# EAGLE library part AR1100-ISO (library SchlegelAr_Master)
AR 1100-ISO :: Touchscreen Steuerung, USB+RS-232, SOIC-20 http://www.reichelt.de/AR-1100-ISO/3/index.html?&ACTION=3&LA=446&ARTICLE=137267&artnr=AR+1100-ISO&SEARCH=AR1100 https://cdn-reichelt.de/documents/datenblatt/A300/DS_AR1100.pdf
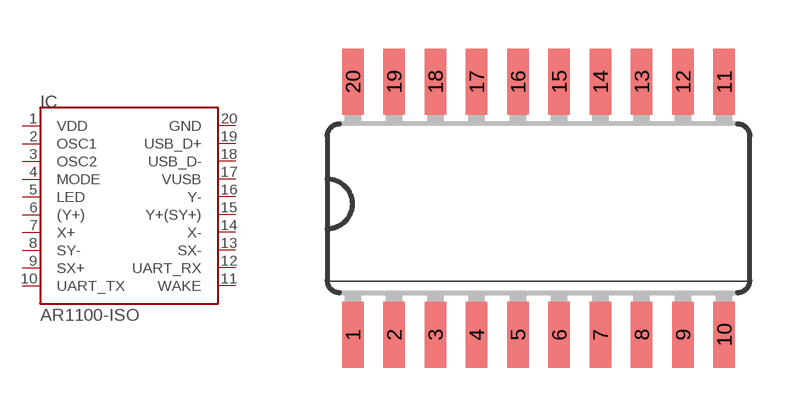
[diagram p15: symbol with the pads of SOIC20; footprint SOIC20]

Designator prefix IC

## AR1100-ISO  [SOIC20]
1  VDD  pas
2  OSC1  pas
3  OSC2  pas
4  MODE  pas
5  LED  pas
6  (Y+)  pas
7  X+  pas
8  SY-  pas
9  SX+  pas
10  UART_TX  pas
11  WAKE  pas
12  UART_RX  pas
13  SX-  pas
14  X-  pas
15  Y+(SY+)  pas
16  Y-  pas
17  VUSB  pas
18  USB_D-  pas
19  USB_D+  pas
20  GND  pas

## Footprint SOIC20 (pad centres in mm)
smd 0.66 x 2.032: 1 -5.615,-4.129; 2 -4.345,-4.129; 3 -3.075,-4.129; 4 -1.805,-4.129; 5 -0.535,-4.129; 6 0.735,-4.129; 7 2.005,-4.129; 8 3.275,-4.129; 9 4.545,-4.129; 10 5.815,-4.129; 11 5.815,3.659; 12 4.545,3.659; 13 3.275,3.659; 14 2.005,3.659; 15 0.735,3.659; 16 -0.535,3.659; 17 -1.805,3.659; 18 -3.075,3.659; 19 -4.345,3.659; 20 -5.615,3.659